# EAGLE library part USART (library custom-connectors)
USART Connector
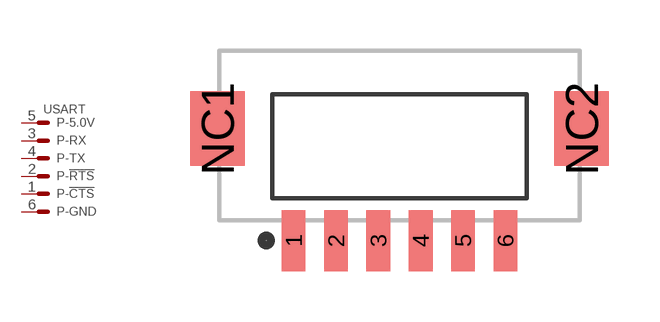
[diagram p5: symbol with the pads of DF13A-6P-1.25H; footprint DF13A-6P-1.25H]

Designator prefix P; gates -5.0V=MV -TX=M -RX=M -!CTS=M -!RTS=M -GND=M

## USART_DF13 (DIGI-KEY: H3371-ND; MOUSER: 798-DF13A6P125H20)  [DF13A-6P-1.25H]
1  -!CTS:S  pas
2  -!RTS:S  pas
3  -RX:S  pas
4  -TX:S  pas
5  -5.0V:S  pas
6  -GND:S  pas

## Footprint DF13A-6P-1.25H (pad centres in mm)
smd 0.7 x 1.8: 1 -3.125,0; 2 -1.875,0; 3 -0.625,0; 4 0.625,0; 5 1.875,0; 6 3.125,0
smd 1.6 x 2.2: NC1 -5.375,3.3; NC2 5.375,3.3